# Altium schematic symbol library ASEK-32.768KHZ-LRT.SchLib: 1 symbol
Pins are listed as number, name and electrical type; pins without a type are passive.

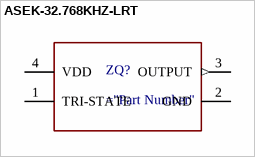
[diagram p0: symbol ASEK-32.768KHZ-LRT]

## ASEK-32.768KHZ-LRT
designator ZQ?
MP: ASEK-32.768KHZ-LRT; Value: *; Availability: Unavailable; Price: None; Package: None
pins: 1 TRI-STATE, 2 GND, 3 OUTPUT (out), 4 VDD (power)